# Altium footprint library Connectors.PcbLib: 8 footprints
Each footprint in its own frame and in the unit in brackets; x right, y up, seen from the top. Pads: shape width x height; smd on the part's side, far side on the other; paste and mask are expansions set on the pad; w line width, h text height; cw(c..) or ccw(c..) is an arc to the next point about the centre after c.
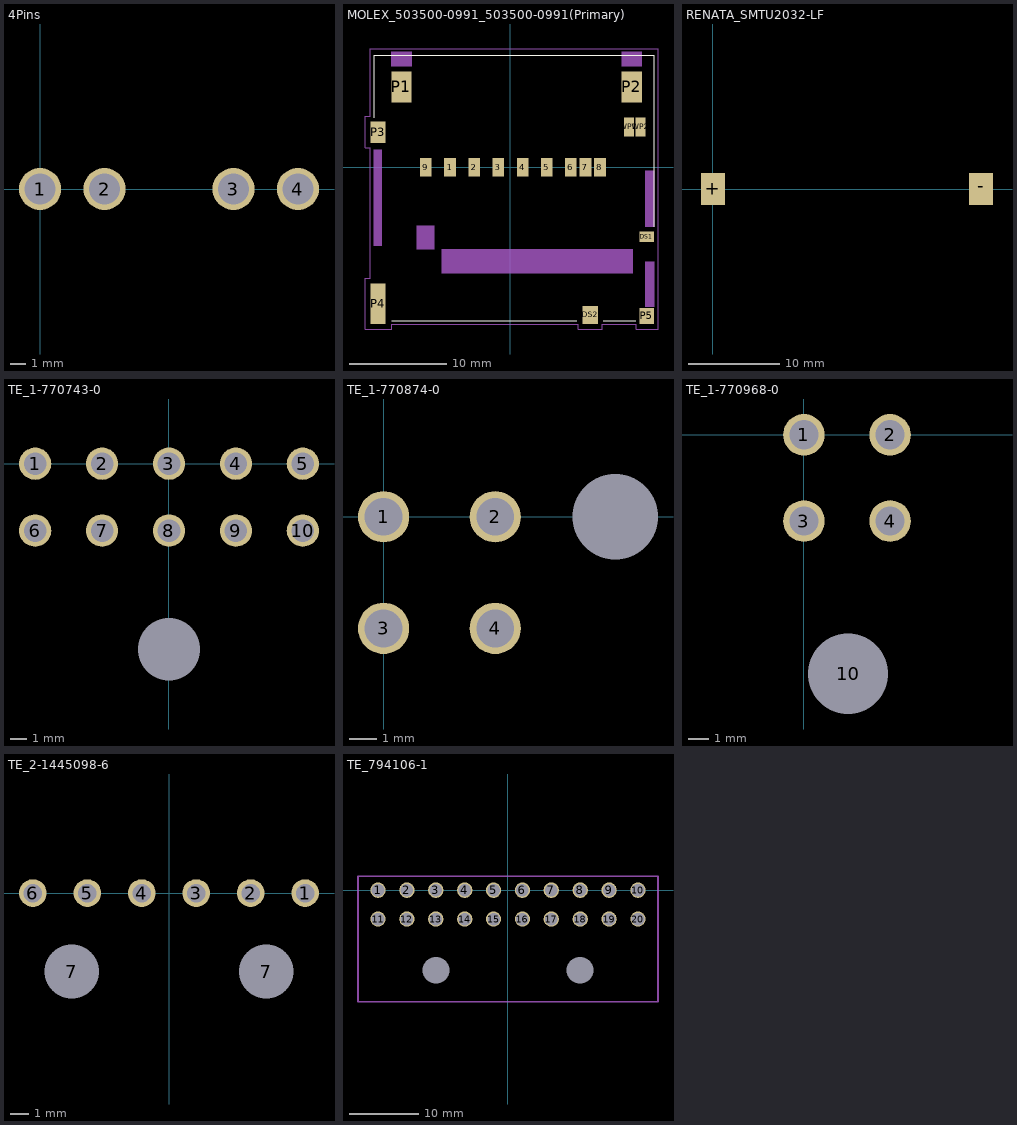
[diagram p0: the footprints below, top view; thin cyan lines are the x and y axes]

## 4Pins [mm]
pads (4):
  round 2.7 hole 2: 1(0,0) 2(4.14,0) 3(12.42,0) 4(16.56,0)

## MOLEX_503500-0991_503500-0991(Primary) [mm]
pads (18):
  rect 1.2x1.95 smd: 1(-6.25,0) 2(-3.75,0) 3(-1.25,0) 4(1.25,0) 5(3.75,0) 6(6.25,0) 7(7.75,0) 8(9.25,0) 9(-8.75,0)
  rect 1.5x1.1 smd: DS1(14.095,-7.205)
  rect 1.6x1.87 smd: DS2(8.225,-15.26)
  rect 2.1x3.2 smd: P1(-11.275,8.305) P2(12.525,8.305)
  rect 1.55x2.2 smd: P3(-13.68,3.625)
  rect 1.55x4.17 smd: P4(-13.68,-14.11)
  rect 1.5x1.65 smd: P5(14.095,-15.37)
  rect 1x2 smd: WP1(12.245,4.165) WP2(13.445,4.165)
Top Overlay:
  lines w0.127: -14.105,5.13 -14.105,11.555 14.845,11.555 14.845,-6.145 ; -12.26,-15.845 6.85,-15.845 ; 9.565,-15.845 12.925,-15.845
Mechanical 1:
  region: -9.717,-6.075 -7.895,-6.075 -7.895,-8.49 -9.717,-8.49
  region: -7.11,-8.475 12.635,-8.475 12.635,-10.983 -7.11,-10.983
  region: -12.344,11.955 -10.225,11.955 -10.225,10.421 -12.344,10.421
  region: 11.507,11.955 13.575,11.955 13.575,10.434 11.507,10.434
  region: -14.137,1.825 -13.305,1.825 -13.305,-8.113 -14.137,-8.113
  region: 13.922,-0.385 14.845,-0.385 14.845,-6.137 13.922,-6.137
  region: 13.924,-9.755 14.845,-9.755 14.845,-14.43 13.924,-14.43
  lines w0.127: -15,-16.75 -15,-11.5 -14.5,-11.5 -14.5,2 -15,2 -15,5.25 -14.5,5.25 -14.5,12.25 15.25,12.25 15.25,-16.75 13,-16.75 13,-16.25 9.5,-16.25 9.5,-16.75 7,-16.75 7,-16.25 -12.25,-16.25 -12.25,-16.75 -15,-16.75

## RENATA_SMTU2032-LF [mm]
pads (2):
  rect 2.6x3.5 smd: +(0,0) -(29.4,0)
3D body: height 5.4, standoff 0, extent -1.3,-10 30.7,10

## TE_1-770743-0 [mm]
height 11.8
pads (11):
  round 2 hole 1.4: 1(-8.28,0) 2(-4.14,0) 3(0,0) 4(4.14,0) 5(8.28,0) 6(-8.28,-4.14) 7(-4.14,-4.14) 8(0,-4.14) 9(4.14,-4.14) 10(8.28,-4.14)
  round 2 hole 3.86 unplated: ""(0,-11.48)

## TE_1-770874-0 [mm] "4Pin"
pads (5):
  round 1.9 hole 1.4: 1(0,0) 2(4.14,0) 3(0,-4.14) 4(4.14,-4.14)
  round 1.9 hole 3.18 unplated: ""(8.59,0)

## TE_1-770968-0 [mm]
pads (5):
  round 2 hole 1.4: 1(0,0) 2(4.14,0) 3(0,-4.14) 4(4.14,-4.14)
  round 2 hole 3.86 unplated: 10(2.12,-11.48)

## TE_2-1445098-6 [mm]
pads (8):
  round 1.524 hole 1.02: 1(7.5,0) 2(4.5,0) 3(1.5,0) 4(-1.5,0) 5(-4.5,0) 6(-7.5,0)
  round 1.524 hole 3 unplated: 7(-5.35,-4.32) 7(5.35,-4.32)

## TE_794106-1 [mm] "20 Pin Side Connector"
height 9.8
pads (22):
  round 2.2 hole 1.8: 1(-18.63,0) 2(-14.49,0) 3(-10.35,0) 4(-6.21,0) 5(-2.07,0) 6(2.07,0) 7(6.21,0) 8(10.35,0) 9(14.49,0) 10(18.63,0) 11(-18.63,-4.14) 12(-14.49,-4.14) 13(-10.35,-4.14) 14(-6.21,-4.14) 15(-2.07,-4.14) 16(2.07,-4.14) 17(6.21,-4.14) 18(10.35,-4.14) 19(14.49,-4.14) 20(18.63,-4.14)
  round 0 hole 3.86: ""(-10.35,-11.48) ""(10.35,-11.48)
Mechanical 1:
  lines w0.254: -21.5,-16 21.5,-16 21.5,2 -21.5,2 -21.5,-16
3D body: height 0.25, standoff 0, extent 0,0 0,0
3D body: height 0.25, standoff 0, extent 0,0 0,0
3D body: height 0.25, standoff 0, extent 0,0 0,0